# Altium footprint library LABLIB.PcbLib: 35 footprints (part 1 of 3)
Each footprint in its own frame and in the unit in brackets; x right, y up, seen from the top. Pads: shape width x height; smd on the part's side, far side on the other; paste and mask are expansions set on the pad; w line width, h text height; cw(c..) or ccw(c..) is an arc to the next point about the centre after c.
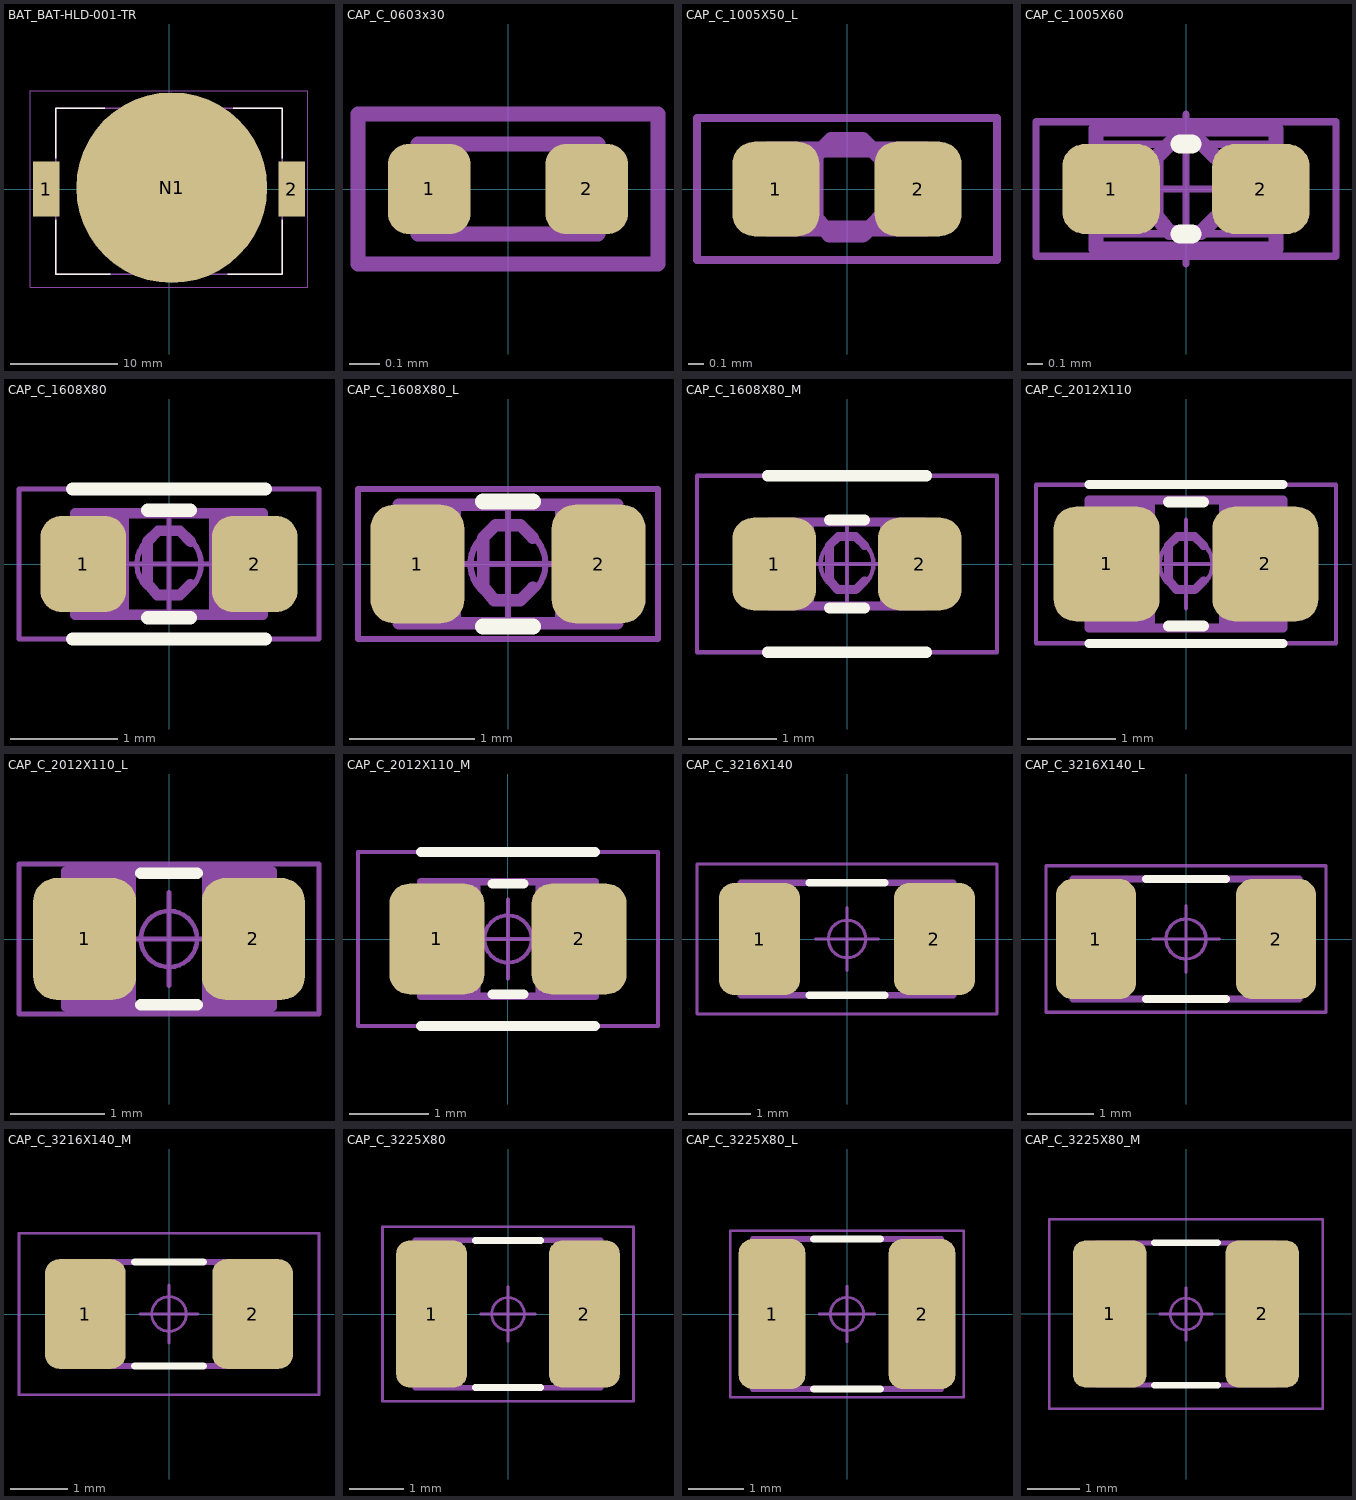
[diagram p0: the footprints below, top view; thin cyan lines are the x and y axes]

## BAT_BAT-HLD-001-TR [mm]
pads (3):
  rect 2.5x5.1 smd: 1(-11.45,0) 2(11.45,0)
  round 17.8 smd paste-10: N1(0.254,0.127)
Top Overlay:
  lines w0.127: -10.55,-2.87 -10.55,-7.95 -5.5,-7.95 ; -10.55,2.87 -10.55,7.55 -6,7.55 ; 5.5,-7.95 10.55,-7.95 10.55,-2.87 ; 6,7.55 10.55,7.55 10.55,2.87
Mechanical 13:
  lines w0.127: -10.55,-7.95 10.55,-7.95 10.55,7.55 -10.55,7.55 -10.55,-7.95
Mechanical 15:
  lines w0.05: -12.95,-9.15 12.95,-9.15 12.95,9.15 -12.95,9.15 -12.95,-9.15
3D body "Harwin_CR2032.step": height 5.3, standoff 0, extent -12.522,-8.054 12.923,7.546

## CAP_C_0603x30 [mm] "Chip Capacitor, 2-Leads, Body 0.6x0.3mm, IPC Medium Density"
height 0.3
pads (2):
  rrect50% 0.275x0.3 smd mask+0.05: 1(-0.262,0) 2(0.262,0)
Top Assembly:
  lines w0.05: -0.3,-0.15 0.3,-0.15 0.3,0.15 -0.3,0.15 -0.3,-0.15
  text ".Designator" at -0.5,0 h0.13
Top Courtyard:
  lines w0.05: -0.5,-0.25 -0.5,0.25 0.5,0.25 0.5,-0.25 -0.5,-0.25
  text "C" at -0.075,-0.1 h0.2
3D body "User Library-SMD CAPACITOR.STEP": height 0.28, standoff -0.02, extent -0.3,-0.15 0.3,0.15

## CAP_C_1005X50_L [mm] "Chip Capacitor, 2-Leads, Body 1.0x0.5mm, IPC High Density"
height 0.5
pads (2):
  rrect50% 0.55x0.6 smd mask+0.05: 1(-0.45,0) 2(0.45,0)
Top Assembly:
  lines w0.1: -0.5,-0.25 -0.5,0.25 0.5,0.25 0.5,-0.25 -0.5,-0.25
  text ".Designator" at -0.4,-0.15 h0.3
Top Courtyard:
  lines w0.05: -0.95,-0.45 0.95,-0.45 0.95,0.45 -0.95,0.45 -0.95,-0.45
  lines w0.1: 0.2,-0.19 0.1,-0.29 -0.11,-0.29 -0.2,-0.18 -0.2,0.21 -0.1,0.31 0.1,0.31 0.2,0.21
Top 3D Body:
  lines w0.1: -0.5,-0.25 0.5,-0.25 0.5,0.25 -0.5,0.25 -0.5,-0.25
3D body "CAP_C_0402.step": height 0.2, standoff 0, extent -0.5,-0.3 0.5,0.3

## CAP_C_1005X60 [mm]
pads (2):
  rrect50% 0.65x0.6 smd mask+0.05: 1(-0.5,0) 2(0.5,0)
Top Overlay:
  lines w0.125: -0.04,-0.3 0.04,-0.3 ; -0.04,0.3 0.04,0.3
Top Assembly:
  lines w0.1: -0.6,-0.4 -0.6,0.4 0.6,0.4 0.6,-0.4 -0.6,-0.4
  text "'.Designator'" at -4.433,-0.827 h1.6
Top Courtyard:
  lines w0.05: -1,-0.45 -0.575,-0.45 1,-0.45 1,0.45 -1,0.45 -1,-0.45
  lines w0.1: 0.2,-0.19 0.1,-0.29 -0.11,-0.29 -0.2,-0.18 -0.2,0.21 -0.1,0.31 0.1,0.31 0.2,0.21
Top Component Outline:
  rectangle: 0.25,-0.3 0.55,0.3
  rectangle: -0.55,-0.3 -0.25,0.3
  lines w0.05: -0.55,-0.3 -0.55,0.3 0.55,0.3 0.55,-0.3 -0.55,-0.3
Top Component Center:
  circle w0.05: c0,0 r0.3
  lines w0.05: -0.5,0 0.5,0 ; 0,-0.5 0,0.5
3D body "capacitor-0402C.step": height 0.35, standoff 0, extent -0.5,-0.265 0.5,0.265

## CAP_C_1608X80 [mm] "Chip Capacitor, 2-Leads, Body 1.60x0.80mm, IPC Medium Density"
height 0.85
pads (2):
  rrect50% 0.8x0.9 smd: 1(-0.8,0) 2(0.8,0)
Top Overlay:
  lines w0.125: -0.9,-0.7 0.9,-0.7 ; -0.9,0.7 0.9,0.7 ; -0.2,-0.5 0.2,-0.5 ; -0.2,0.5 0.2,0.5
Top Assembly:
  lines w0.1: -0.875,-0.475 0.875,-0.475 0.875,0.475 -0.875,0.475 -0.875,-0.475
  text "'.Designator'" at -4.217,-0.663 h1.6
Top Courtyard:
  lines w0.05: -1.4,-0.7 1.4,-0.7 1.4,0.7 -1.4,0.7 -1.4,-0.7
  lines w0.1: 0.2,-0.19 0.1,-0.29 -0.11,-0.29 -0.2,-0.18 -0.2,0.21 -0.1,0.31 0.1,0.31 0.2,0.21
Top Component Outline:
  rectangle: -0.875,-0.475 -0.375,0.475
  rectangle: 0.375,-0.475 0.875,0.475
  lines w0.05: -0.875,-0.475 -0.875,0.475 0.875,0.475 0.875,-0.475 -0.875,-0.475
Top Component Center:
  circle w0.05: c0,0 r0.3
  lines w0.05: -0.5,0 0.5,0 ; 0,-0.5 0,0.5
3D body "CAPC1608X80.step": height 0.85, standoff 0, extent -0.875,-0.475 0.875,0.475

## CAP_C_1608X80_L [mm] "Chip Capacitor, 2-Leads, Body 1.60x0.80mm, IPC High Density"
height 0.85
pads (2):
  rrect50% 0.75x0.95 smd: 1(-0.725,0) 2(0.725,0)
Top Overlay:
  lines w0.125: -0.2,-0.5 0.2,-0.5 ; -0.2,0.5 0.2,0.5
Top Assembly:
  lines w0.1: -0.875,-0.475 -0.875,0.475 0.875,0.475 0.875,-0.475 -0.875,-0.475
  text "'.Designator'" at -4.217,-0.663 h1.6
Top Courtyard:
  lines w0.05: -1.2,-0.6 1.2,-0.6 1.2,0.6 -1.2,0.6 -1.2,-0.6
  lines w0.1: 0.2,-0.19 0.1,-0.29 -0.11,-0.29 -0.2,-0.18 -0.2,0.21 -0.1,0.31 0.1,0.31 0.2,0.21
Top Component Outline:
  rectangle: 0.375,-0.475 0.875,0.475
  rectangle: -0.875,-0.475 -0.375,0.475
  lines w0.05: -0.875,-0.475 0.875,-0.475 0.875,0.475 -0.875,0.475 -0.875,-0.475
Top Component Center:
  circle w0.05: c0,0 r0.3
  lines w0.05: -0.5,0 0.5,0 ; 0,-0.5 0,0.5
3D body "CAPC1608X80_L.step": height 0.85, standoff 0, extent -0.875,-0.475 0.875,0.475

## CAP_C_1608X80_M [mm] "Chip Capacitor, 2-Leads, Body 1.60x0.80mm, IPC Low Density"
height 0.85
pads (2):
  rrect50% 0.95x1.05 smd: 1(-0.825,0) 2(0.825,0)
Top Overlay:
  lines w0.125: -0.9,-1 0.9,-1 ; -0.9,1 0.9,1 ; -0.2,-0.5 0.2,-0.5 ; -0.2,0.5 0.2,0.5
Top Assembly:
  lines w0.1: -0.875,-0.475 0.875,-0.475 0.875,0.475 -0.875,0.475 -0.875,-0.475
  text "'.Designator'" at -4.217,-0.663 h1.6
Top Courtyard:
  lines w0.05: -1.7,-1 -1.7,1 1.7,1 1.7,-1 -1.7,-1
  lines w0.1: 0.2,-0.19 0.1,-0.29 -0.11,-0.29 -0.2,-0.18 -0.2,0.21 -0.1,0.31 0.1,0.31 0.2,0.21
Top Component Outline:
  rectangle: -0.875,-0.475 -0.375,0.475
  rectangle: 0.375,-0.475 0.875,0.475
  lines w0.05: -0.875,-0.475 -0.875,0.475 0.875,0.475 0.875,-0.475 -0.875,-0.475
Top Component Center:
  circle w0.05: c0,0 r0.3
  lines w0.05: -0.5,0 0.5,0 ; 0,-0.5 0,0.5
3D body "CAPC1608X80_M.step": height 0.85, standoff 0, extent -0.875,-0.475 0.875,0.475

## CAP_C_2012X110 [mm] "Chip Capacitor, 2-Leads, Body 2.00x1.25mm, IPC High Density"
height 1.1
pads (2):
  rrect41% 1.2x1.3 smd: 1(-0.9,0) 2(0.9,0)
Top Overlay:
  lines w0.1: -1.1,-0.9 1.1,-0.9 ; -1.1,0.9 1.1,0.9
  lines w0.125: -0.2,-0.7 0.2,-0.7 ; -0.2,0.7 0.2,0.7
Top Assembly:
  lines w0.1: -1.1,-0.725 -1.1,0.725 1.1,0.725 1.1,-0.725 -1.1,-0.725
  text "'.Designator'" at -3.952,-0.622 h1.5
Top Courtyard:
  lines w0.05: -1.7,-0.9 1.7,-0.9 1.7,0.9 -1.7,0.9 -1.7,-0.9
  lines w0.1: 0.2,-0.19 0.1,-0.29 -0.11,-0.29 -0.2,-0.18 -0.2,0.21 -0.1,0.31 0.1,0.31 0.2,0.21
Top Component Outline:
  rectangle: 0.375,-0.725 1.125,0.725
  rectangle: -1.1,-0.725 -0.35,0.725
  lines w0.05: -1.1,-0.725 1.1,-0.725 1.1,0.725 -1.1,0.725 -1.1,-0.725
Top Component Center:
  circle w0.05: c0,0 r0.3
  lines w0.05: -0.5,0 0.5,0 ; 0,-0.5 0,0.5
3D body "CAPC2012X110.step": height 1.1, standoff 0, extent -1.1,-0.725 1.1,0.725

## CAP_C_2012X110_L [mm] "Chip Capacitor, 2-Leads, Body 2.00x1.25mm, IPC High Density"
height 1.1
pads (2):
  rrect45% 1.1x1.3 smd: 1(-0.9,0) 2(0.9,0)
Top Overlay:
  lines w0.125: -0.3,-0.7 0.3,-0.7 ; -0.3,0.7 0.3,0.7
Top Assembly:
  lines w0.1: -1.1,-0.725 -1.1,0.725 1.1,0.725 1.1,-0.725 -1.1,-0.725
  text "'.Designator'" at -3.952,-0.622 h1.5
Top Courtyard:
  lines w0.05: -1.6,-0.8 -1.6,0.8 1.6,0.8 1.6,-0.8 -1.6,-0.8
Top Component Outline:
  region: 1.1,0.725 0.35,0.725 0.35,-0.725 1.1,-0.725
  rectangle: -1.1,-0.725 -0.35,0.725
  lines w0.05: -1.1,-0.725 -1.1,0.725 1.1,0.725 1.1,-0.725 -1.1,-0.725
Top Component Center:
  circle w0.05: c0,0 r0.3
  lines w0.05: -0.5,0 0.5,0 ; 0,-0.5 0,0.5
3D body "CAPC2012X110_L.step": height 1.1, standoff 0, extent -1.1,-0.725 1.1,0.725

## CAP_C_2012X110_M [mm] "Chip Capacitor, 2-Leads, Body 2.00x1.25mm, IPC High Density"
height 1.1
pads (2):
  rrect41% 1.2x1.4 smd: 1(-0.9,0) 2(0.9,0)
Top Overlay:
  lines w0.125: -1.1,-1.1 1.1,-1.1 ; -1.1,1.1 1.1,1.1 ; -0.2,-0.7 0.2,-0.7 ; -0.2,0.7 0.2,0.7
Top Assembly:
  lines w0.1: -1.1,-0.725 1.1,-0.725 1.1,0.725 -1.1,0.725 -1.1,-0.725
  text "'.Designator'" at -3.952,-0.622 h1.5
Top Courtyard:
  lines w0.05: -1.9,-1.1 1.9,-1.1 1.9,1.1 -1.9,1.1 -1.9,-1.1
Top Component Outline:
  rectangle: -1.1,-0.725 -0.35,0.725
  region: 1.1,0.725 0.35,0.725 0.35,-0.725 1.1,-0.725
  lines w0.05: -1.1,-0.725 1.1,-0.725 1.1,0.725 -1.1,0.725 -1.1,-0.725
Top Component Center:
  circle w0.05: c0,0 r0.3
  lines w0.05: -0.5,0 0.5,0 ; 0,-0.5 0,0.5
3D body "CAPC2012X110_M.step": height 1.1, standoff 0, extent -1.1,-0.725 1.1,0.725

## CAP_C_3216X140 [mm] "Chip Capacitor, 2-Leads, Body 3.20x1.60mm, IPC High Density"
height 1.35
pads (2):
  rrect38% 1.3x1.8 smd: 1(-1.4,0) 2(1.4,0)
Top Overlay:
  lines w0.125: -0.6,-0.9 0.6,-0.9 ; -0.6,0.9 0.6,0.9
Top Assembly:
  lines w0.1: -1.7,-0.9 -1.7,0.9 1.7,0.9 1.7,-0.9 -1.7,-0.9
  text "'.Designator'" at -3.952,-0.622 h1.5
Top Courtyard:
  lines w0.05: -2.4,-1.2 -2.4,1.2 2.4,1.2 2.4,-1.2 -2.4,-1.2
Top Component Outline:
  rectangle: -1.7,-0.9 -0.95,0.9
  region: 1.7,0.9 0.95,0.9 0.95,-0.9 1.7,-0.9
  lines w0.05: -1.7,-0.9 1.7,-0.9 1.7,0.9 -1.7,0.9 -1.7,-0.9
Top Component Center:
  circle w0.05: c0,0 r0.3
  lines w0.05: -0.5,0 0.5,0 ; 0,-0.5 0,0.5
3D body "CAPC3216X140.step": height 1.35, standoff 0, extent -1.7,-0.9 1.7,0.9

## CAP_C_3216X140_L [mm] "Chip Capacitor, 2-Leads, Body 3.20x1.60mm, IPC High Density"
height 1.35
pads (2):
  rrect41% 1.2x1.8 smd: 1(-1.35,0) 2(1.35,0)
Top Overlay:
  lines w0.125: -0.6,-0.9 0.6,-0.9 ; -0.6,0.9 0.6,0.9
Top Assembly:
  lines w0.1: -1.7,-0.9 -1.7,0.9 1.7,0.9 1.7,-0.9 -1.7,-0.9
  text "'.Designator'" at -3.952,-0.622 h1.5
Top Courtyard:
  lines w0.05: -2.1,-1.1 -2.1,1.1 2.1,1.1 2.1,-1.1 -2.1,-1.1
Top Component Outline:
  rectangle: -1.7,-0.9 -0.95,0.9
  region: 1.7,0.9 0.95,0.9 0.95,-0.9 1.7,-0.9
  lines w0.05: -1.7,-0.9 1.7,-0.9 1.7,0.9 -1.7,0.9 -1.7,-0.9
Top Component Center:
  circle w0.05: c0,0 r0.3
  lines w0.05: -0.5,0 0.5,0 ; 0,-0.5 0,0.5
3D body "CAPC3216X140_L.step": height 1.35, standoff 0, extent -1.7,-0.9 1.7,0.9

## CAP_C_3216X140_M [mm] "Chip Capacitor, 2-Leads, Body 3.20x1.60mm, IPC High Density"
height 1.35
pads (2):
  rrect35% 1.4x1.9 smd: 1(-1.45,0) 2(1.45,0)
Top Overlay:
  lines w0.125: -0.6,-0.9 0.6,-0.9 ; -0.6,0.9 0.6,0.9
Top Assembly:
  lines w0.1: -1.7,-0.9 1.7,-0.9 1.7,0.9 -1.7,0.9 -1.7,-0.9
  text "'.Designator'" at -3.952,-0.622 h1.5
Top Courtyard:
  lines w0.05: -2.6,-1.4 -2.6,1.4 2.6,1.4 2.6,-1.4 -2.6,-1.4
Top Component Outline:
  region: 1.7,0.9 0.95,0.9 0.95,-0.9 1.7,-0.9
  rectangle: -1.7,-0.9 -0.95,0.9
  lines w0.05: -1.7,-0.9 -1.7,0.9 1.7,0.9 1.7,-0.9 -1.7,-0.9
Top Component Center:
  circle w0.05: c0,0 r0.3
  lines w0.05: -0.5,0 0.5,0 ; 0,-0.5 0,0.5
3D body "CAPC3216X140_M.step": height 1.35, standoff 0, extent -1.7,-0.9 1.7,0.9

## CAP_C_3225X80 [mm] "Chip Capacitor, 2-Leads, Body 3.20x2.50mm, IPC Medium Density"
height 0.75
pads (2):
  rrect38% 1.3x2.7 smd: 1(-1.4,0) 2(1.4,0)
Top Overlay:
  lines w0.125: -0.6,-1.35 0.6,-1.35 ; -0.6,1.35 0.6,1.35
Top Assembly:
  lines w0.1: -1.7,-1.35 -1.7,1.35 1.7,1.35 1.7,-1.35 -1.7,-1.35
  text "'.Designator'" at -3.952,-0.622 h1.5
Top Courtyard:
  lines w0.05: -2.3,-1.6 2.3,-1.6 2.3,1.6 -2.3,1.6 -2.3,-1.6
Top Component Outline:
  rectangle: -1.7,-1.35 -0.95,1.35
  region: 1.7,1.35 0.95,1.35 0.95,-1.35 1.7,-1.35
  lines w0.05: -1.7,-1.35 1.7,-1.35 1.7,1.35 -1.7,1.35 -1.7,-1.35
Top Component Center:
  circle w0.05: c0,0 r0.3
  lines w0.05: -0.5,0 0.5,0 ; 0,-0.5 0,0.5
3D body "CAPC3225X80.step": height 0.75, standoff 0, extent -1.7,-1.35 1.7,1.35

## CAP_C_3225X80_L [mm] "Chip Capacitor, 2-Leads, Body 3.20x2.50mm, IPC Medium Density"
height 0.75
pads (2):
  rrect41% 1.2x2.7 smd: 1(-1.35,0) 2(1.35,0)
Top Overlay:
  lines w0.125: -0.6,-1.35 0.6,-1.35 ; -0.6,1.35 0.6,1.35
Top Assembly:
  lines w0.1: -1.7,-1.35 -1.7,1.35 1.7,1.35 1.7,-1.35 -1.7,-1.35
  text "'.Designator'" at -3.952,-0.622 h1.5
Top Courtyard:
  lines w0.05: -2.1,-1.5 -2.1,1.5 2.1,1.5 2.1,-1.5 -2.1,-1.5
Top Component Outline:
  region: 1.7,1.35 0.95,1.35 0.95,-1.35 1.7,-1.35
  rectangle: -1.7,-1.35 -0.95,1.35
  lines w0.05: -1.7,-1.35 -1.7,1.35 1.7,1.35 1.7,-1.35 -1.7,-1.35
Top Component Center:
  circle w0.05: c0,0 r0.3
  lines w0.05: -0.5,0 0.5,0 ; 0,-0.5 0,0.5
3D body "CAPC3225X80_L.step": height 0.75, standoff 0, extent -1.7,-1.35 1.7,1.35

## CAP_C_3225X80_M [mm] "Chip Capacitor, 2-Leads, Body 3.20x2.50mm, IPC Medium Density"
height 0.75
pads (2):
  rrect35% 1.4x2.8 smd: 1(-1.45,0) 2(1.45,0)
Top Overlay:
  lines w0.125: -0.6,-1.35 0.6,-1.35 ; -0.6,1.35 0.6,1.35
Top Assembly:
  lines w0.1: -1.7,-1.35 -1.7,1.35 1.7,1.35 1.7,-1.35 -1.7,-1.35
  text "'.Designator'" at -3.952,-0.622 h1.5
Top Courtyard:
  lines w0.05: -2.6,-1.8 -2.6,1.8 2.6,1.8 2.6,-1.8 -2.6,-1.8
Top Component Outline:
  region: 1.7,1.35 0.95,1.35 0.95,-1.35 1.7,-1.35
  rectangle: -1.7,-1.35 -0.95,1.35
  lines w0.05: -1.7,-1.35 1.7,-1.35 1.7,1.35 -1.7,1.35 -1.7,-1.35
Top Component Center:
  circle w0.05: c0,0 r0.3
  lines w0.05: -0.5,0 0.5,0 ; 0,-0.5 0,0.5
3D body "CAPC3225X80_M.step": height 0.75, standoff 0, extent -1.7,-1.35 1.7,1.35